# EAGLE library part 21810LPSTF (library 21810LPSTF)
DIP SW,Half-pitch,10-pos,flush act,SMD Source: Datasheet
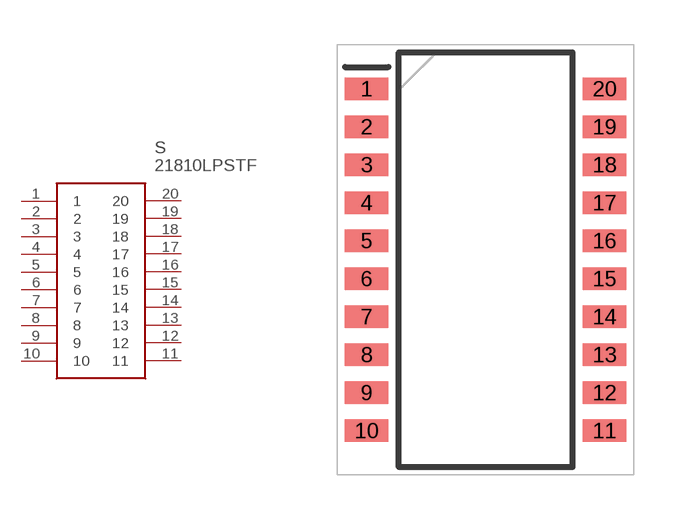
[diagram p0: symbol with the pads of SOIC127P844X265-20N; footprint SOIC127P844X265-20N]

Designator prefix S

## 21810LPSTF (Description: DIP SW,Half-pitch,10-pos,flush act,SMD; Height: 2.65mm; Manufacturer_Name: CTS; Manufacturer_Part_Number: 21810LPSTF)  [SOIC127P844X265-20N]
1  1
2  2
3  3
4  4
5  5
6  6
7  7
8  8
9  9
10  10
11  11
12  12
13  13
14  14
15  15
16  16
17  17
18  18
19  19
20  20

## Footprint SOIC127P844X265-20N (pad centres in mm)
218-10LPST
smd 1.45 x 0.75: 1 -3.975,5.715; 2 -3.975,4.445; 3 -3.975,3.175; 4 -3.975,1.905; 5 -3.975,0.635; 6 -3.975,-0.635; 7 -3.975,-1.905; 8 -3.975,-3.175; 9 -3.975,-4.445; 10 -3.975,-5.715; 11 3.975,-5.715; 12 3.975,-4.445; 13 3.975,-3.175; 14 3.975,-1.905; 15 3.975,-0.635; 16 3.975,0.635; 17 3.975,1.905; 18 3.975,3.175; 19 3.975,4.445; 20 3.975,5.715